# Altium integrated library 450405020524.IntLib: 1 symbol
Pins are listed as number, name and electrical type; pins without a type are passive.

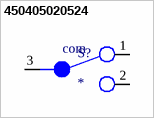
[diagram p0: symbol 450405020524]

## 450405020524
designator S?
SMT 8.7 X 3.0 MM MINI SLIDE SWIT; MF: WÃ¼rth Elektronik; MP: 450405020524; Availability: Warning; Value: *; Check_prices: https://www.snapeda.com/parts/450405020524/Wurth%20Electronics%20Inc./view-part/4900805/?ref=eda; Package: None; SnapEDA_Link: https://www.snapeda.com/parts/450405020524/Wurth%20Electronics%20Inc./view-part/4900805/?ref=snap; Price: None; Purchase-URL: https://pricing.snapeda.com/search/part/450405020524/?ref=eda
footprint 450405020524
pins: 1, 2, 3
text: com